# Altium schematic symbol library 105162-0001.SchLib: 1 symbol
Pins are listed as number, name and electrical type; pins without a type are passive.

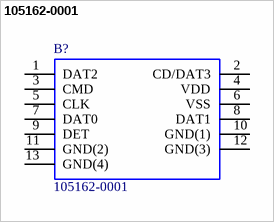
[diagram p0: symbol 105162-0001]

## 105162-0001
designator B?
Memory Card Connectors 1.45H MICRO SD HEADER WITH D/C PIN; Manufacturer_Name: Molex; Geometry.Height: mm; Supplier_Name: RS; RS Part Number: *; Manufacturer_Part_Number: 105162-0001; Allied_Number: *; Other Part Number: *; Datasheet Link: http://www.molex.com/webdocs/datasheets/pdf/en-us//1051620001_MEMORY_CARD_SOCKET.pdf; 3D Package: *
footprint 105162-0001
pins: 1 DAT2, 2 CD/DAT3, 3 CMD, 4 VDD, 5 CLK, 6 VSS, 7 DAT0, 8 DAT1, 9 DET, 10 GND(1), 11 GND(2), 12 GND(3), 13 GND(4)